# Altium footprint library Battery&Holders.PcbLib: 20 footprints (part 1 of 2)
Each footprint in its own frame and in the unit in brackets; x right, y up, seen from the top. Pads: shape width x height; smd on the part's side, far side on the other; paste and mask are expansions set on the pad; w line width, h text height; cw(c..) or ccw(c..) is an arc to the next point about the centre after c.
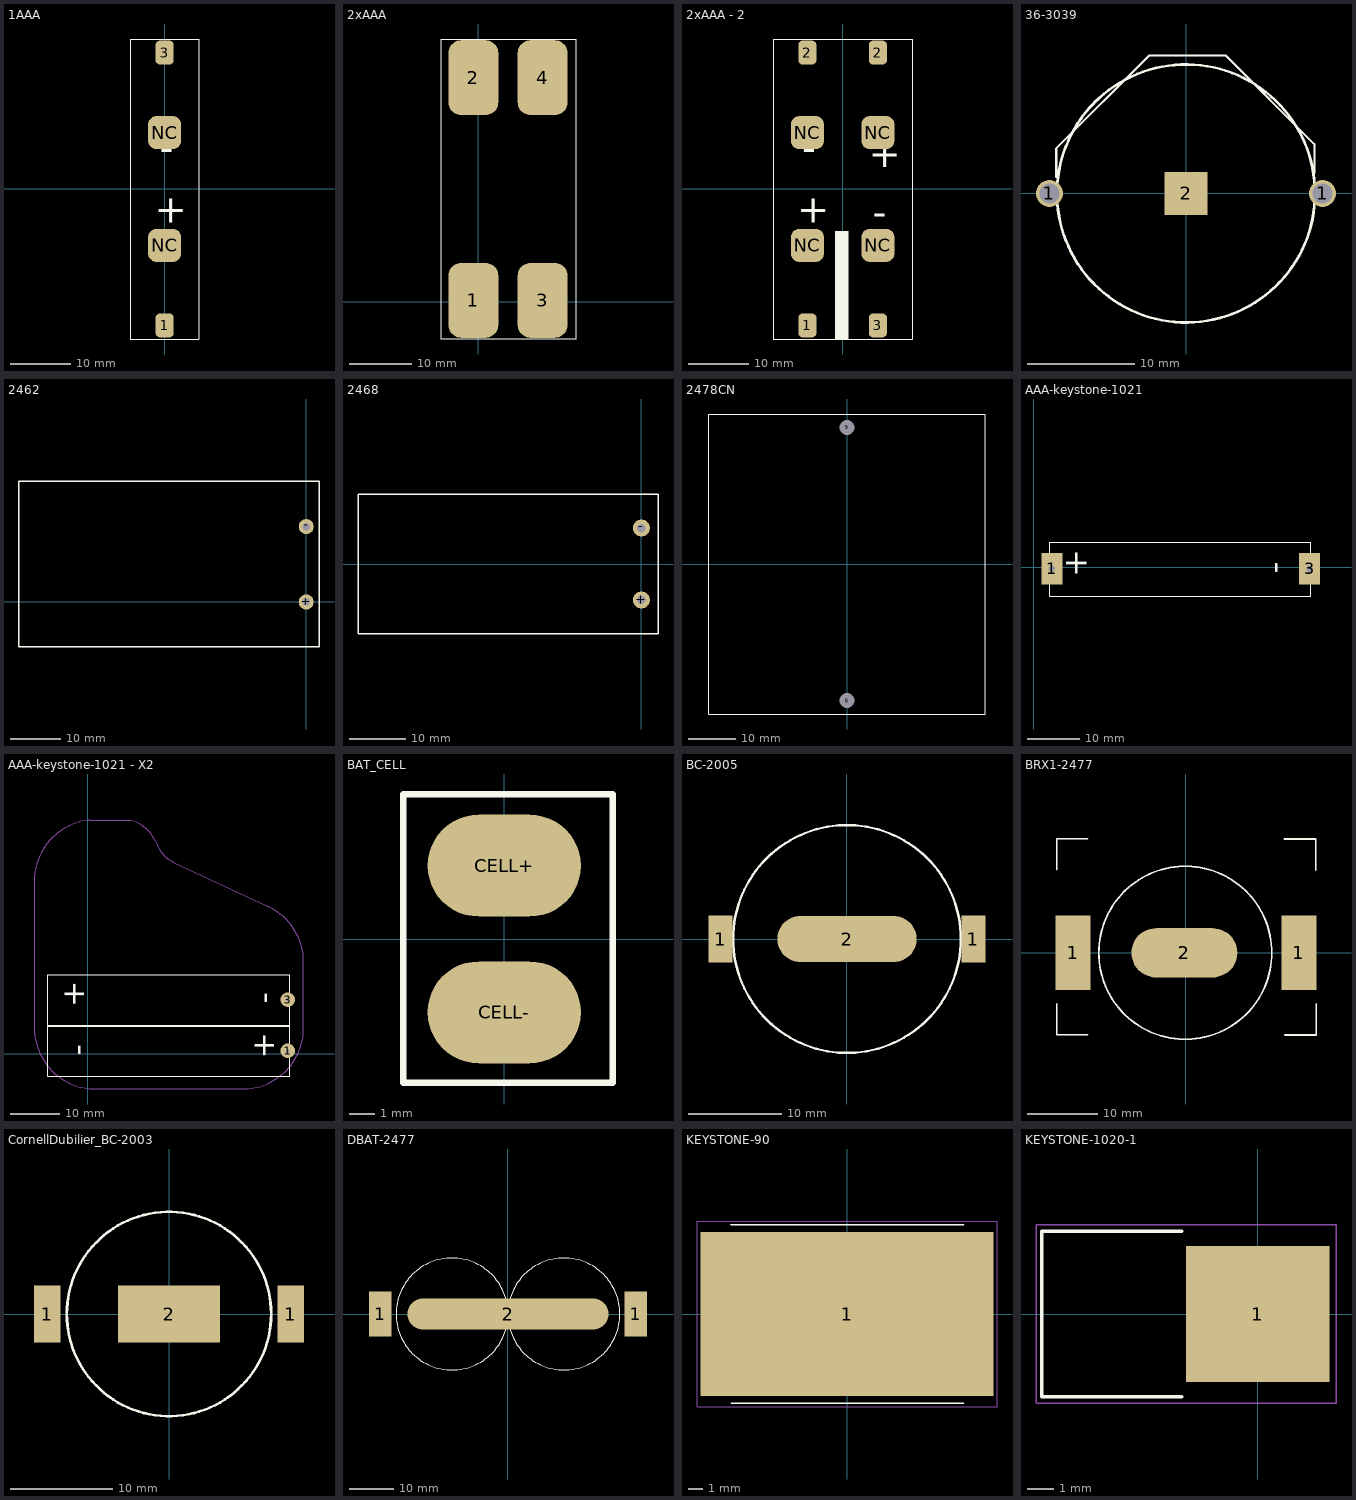
[diagram p0: the footprints below, top view; thin cyan lines are the x and y axes]

## 1AAA [mm]
pads (4):
  rrect50% 3x4 smd: 1(0,-22.65) 3(0,22.65)
  rrect50% 5.5x5.5 smd: NC(0,-9.35) NC(0,9.35)
Top Overlay:
  lines w0.15: -5.7,-24.9 -5.7,24.9 5.65,24.9 5.65,-24.9 -5.7,-24.9
  text "-" at -0.85,3.1 h8
  text "+" at -1.65,-7.2 h8
3D body "keystone-PN55.STEP": height 13.33, standoff 0.01, extent -5.673,7.492 5.67,24.15
3D body "keystone-PN55.STEP": height 13.33, standoff 0.01, extent -5.67,-24.15 5.673,-7.492
3D body "User Library-AAA Battery-2.step": height 12.12, standoff 1.88, extent -5.125,-22 5.125,22.35

## 2xAAA [mm]
pads (4):
  rrect50% 8x12 smd: 1(-0.8,0.2) 2(-0.8,35.9) 3(10.3,0.2) 4(10.3,35.9)
Top Overlay:
  lines w0.15: -6,-6 -6,42.1 15.7,42.1 15.7,-6 -6,-6
3D body "User Library-Keystone 82.step": height 12.71, standoff -3.94, extent -5.947,-4.562 4.537,5.328
3D body "User Library-AAA Battery-2.step": height 12.12, standoff 1.88, extent -5.825,-4.15 4.425,40.2
3D body "User Library-Keystone 82.step": height 12.71, standoff -3.94, extent -5.947,30.91 4.537,40.8
3D body "User Library-Keystone 82.step": height 12.71, standoff -3.94, extent 5.153,30.91 15.637,40.8
3D body "User Library-AAA Battery-2.step": height 12.12, standoff 1.88, extent 5.275,-4.15 15.525,40.2
3D body "User Library-Keystone 82.step": height 12.71, standoff -3.94, extent 5.153,-4.562 15.637,5.328

## 2xAAA - 2 [mm]
pads (8):
  rrect50% 3x4 smd: 1(-5.85,-22.65) 2(-5.85,22.65) 2(5.85,22.65) 3(5.85,-22.65)
  rrect50% 5.5x5.5 smd: NC(-5.85,-9.35) NC(-5.85,9.35) NC(5.85,-9.35) NC(5.85,9.35)
Top Overlay:
  rectangle: -1.3,-24.9 1,-7
  lines w0.15: -11.55,-24.9 11.55,-24.9 11.55,24.9 -11.55,24.9 -11.55,-24.9
  text "+" at -7.5,-7.2 h8
  text "-" at -6.7,3.1 h8
  text "-" at 5,-7.6 h8
  text "+" at 4.3,2 h8
3D body "User Library-AAA Battery-2.step": height 12.12, standoff 1.88, extent -10.975,-22 -0.725,22.35
3D body "keystone-PN55.STEP": height 13.33, standoff 0.01, extent -11.52,-24.15 -0.177,-7.492
3D body "keystone-PN55.STEP": height 13.33, standoff 0.01, extent -11.523,7.492 -0.18,24.15
3D body "keystone-PN55.STEP": height 13.33, standoff 0.01, extent 0.177,7.492 11.52,24.15
3D body "keystone-PN55.STEP": height 13.33, standoff 0.01, extent 0.18,-24.15 11.523,-7.492
3D body "User Library-AAA Battery-2.step": height 12.12, standoff 1.88, extent 0.725,-22 10.975,22.35

## 36-3039 [mm] "BATTERY HOLDER THRU HOLE 2477"
pads (3):
  round 2.5 hole 1.85: 1(-12.7,0) 1(12.7,0)
  rect 4x4 smd: 2(0,0)
Top Overlay:
  circle w0.254: c0,0 r12
  lines w0.2: -12.065,1.524 -12.065,4.191 -3.429,12.827 3.683,12.827 11.938,4.572 11.938,1.905
3D body "keystone-PN3039.STEP": height 8.55, standoff -2.88, extent -13.594,-9.779 13.594,12.827

## 2462 [mm] "2 AA Cell Holder, PC P/N 2462"
pads (2):
  round 3 hole 1.5: +(0,0) -(0,14.99)
Top Overlay:
  lines w0.254: -57.15,-8.89 -57.15,24.003 2.54,24.003 2.54,-8.89 -57.15,-8.89
3D body "keystone-PN2462.STEP": height 16.01, standoff -11.98, extent -57.174,-8.89 2.54,24.028

## 2468 [mm] "HOLDER BATTERY 2CELL AAA PC MNT"
pads (2):
  round 3 hole 1.5: +(0,-6.35) -(0,6.35)
Top Overlay:
  lines w0.254: -50.038,-12.319 -50.038,12.319 2.921,12.319 2.921,-12.319 -50.038,-12.319
3D body "keystone-PN2468.STEP": height 13.23, standoff -12.69, extent -50.063,-12.294 2.921,12.294

## 2478CN [mm] "BATT HLDR AA 4 CELL LEADS W/CONN"
pads (2):
  oval 1.6x2.2 hole 3.18 unplated: 8(0,-28.7) 9(0,28.7)
Top Overlay:
  lines w0.2: -29,-31.5 29,-31.5 29,31.5 -29,31.5 -29,-31.5
3D body "keystone-PN2478CN.STEP": height 16.01, standoff 0.01, extent -186.364,-31.317 29.104,31.673

## AAA-keystone-1021 [mm]
pads (4):
  round 0 hole 1.2: 1(3.4,-0.3) 3(52.325,-0.3)
  rect 4x6 smd: 1(3.4,-0.3) 3(52.325,-0.3)
Top Overlay:
  lines w0.15: 2.975,-5.5 52.525,-5.5 52.525,4.775 2.975,4.775 2.975,-5.5
  text "+" at 11.65,-1.875 h8
  text "-" at 49.35,-1.275 h8
3D body "keystone-PN1021-1.STEP": height 10.33, standoff -4.31, extent 3.019,-3.475 7.359,2.875
3D body "User Library-AAA Battery-2.step": height 10.63, standoff 0.37, extent 4.975,-5.45 49.325,4.8
3D body "keystone-PN1021-1.STEP": height 10.33, standoff -4.31, extent 48.16,-3.375 52.5,2.975

## AAA-keystone-1021 - X2 [mm]
pads (2):
  round 3 / inner round 3 / far side round 1.1 hole 0.8: 1(40.975,0.65) 3(40.975,11.125)
Top Overlay:
  lines w0.15: -8.15,-4.55 -8.15,5.725 41.4,5.725 41.4,-4.55 -8.15,-4.55 ; -8.15,5.925 41.4,5.925 41.4,16.2 -8.15,16.2 -8.15,5.925
  text "+" at 32.725,-0.925 h8
  text "-" at -4.975,-0.325 h8
  text "-" at 33.175,10.275 h8
  text "+" at -6.225,9.6 h8
Mechanical 2:
  lines w0.01: 8.42,47.887 8.626,47.887
  lines w0.013: -10.83,4.195 ccw(c1.63,5.347) 0.471,-7.113 32.868,-7.113 ; -10.83,36.587 cw(c1.629,35.428) 0.478,47.887 8.42,47.887 ; -10.825,4.195 -10.825,36.587 ; 8.626,47.888 cw(c6.694,40.125) 13.854,43.693 ccw(c21.438,46.24) 17.527,39.261 36.898,30.195 cw(c31.716,18.805) 44.175,19.965 44.175,19.515 ; 32.868,-7.11 ccw(c31.716,5.35) 44.175,4.19 44.175,19.515 ; 44.175,19.515 44.175,19.515
3D body "keystone-PN181.STEP": height 9, standoff 2.2, extent -6.925,-2.853 0.575,14.364
3D body "keystone-PN179.STEP": height 8.81, standoff -14.5, extent 39.875,-2.838 41.275,3.788
3D body "keystone-PN180.STEP": height 9, standoff -14.5, extent 33.927,7.696 41.425,14.596
3D body "User Library-AAA Battery-2.step": height 10.63, standoff 0.37, extent -5.225,-4.55 39.125,5.7
3D body "User Library-AAA Battery-2.step": height 10.63, standoff 0.37, extent -5.225,5.95 39.125,16.2

## BAT_CELL [mm]
pads (2):
  oval 6x4 smd: CELL+(0,2.875) CELL-(0,-2.875)
Top Overlay:
  lines w0.254: -3.95,-5.625 -3.95,5.675 4.25,5.675 4.25,-5.625 -3.95,-5.625

## BC-2005 [mm] "CR2450 BATTERY STRAP SMT"
pads (3):
  rect 2.6x5.08 smd: 1(-13.59,0) 1(13.59,0)
  oval 15x5 smd: 2(0,0)
Top Overlay:
  circle w0.254: c0,0 r12.25
3D body "bat_holder_ok.step": height 4.52, standoff 0, extent -12.635,-4.054 12.635,4.206
3D body: height 0.2, standoff 0, extent -13.894,-2.54 -12.522,2.515
3D body: height 0.2, standoff 0, extent 12.497,-2.515 13.868,2.54
3D body "User Library-CR 2450.step": height 4, standoff -0.75, extent -12.25,-12.25 12.25,12.25

## BRX1-2477 [mm] "CR2477 SURFACE MOUNT BATTERY RETAINER"
pads (3):
  rect 5x10.5 smd: 1(-16,0) 1(16,0)
  oval 15x7 smd: 2(-0.227,0)
Top Overlay:
  circle w0.254: c-0.1,0 r12.25
  lines w0.254: -18.313,-7.214 -18.313,-11.608 -13.919,-11.608 ; -18.313,11.76 -18.313,16.154 -13.919,16.154 ; 13.97,16.104 18.364,16.104 ; 14.021,-11.659 18.415,-11.659 ; 18.39,11.709 18.39,16.104 ; 18.44,-11.633 18.44,-7.239
3D body "BRX1-2477-SM.STEP": height 8.74, standoff 0, extent -18.286,-11.655 18.442,16.133

## CornellDubilier_BC-2003 [mm] "CR2032 BATTERY STRAP SMT"
pads (3):
  rect 2.6x5.56 smd: 1(-11.905,0) 1(11.905,0)
  rect 10x5.56 smd: 2(0,0)
Top Overlay:
  circle w0.254: c0,0 r10
3D body "CR-2032 v1.step": height 3.2, standoff 0, extent -10,-10 10,10
3D body "BC-2003-G--3DModel-STEP-1.STEP": height 3.56, standoff 0, extent -12.7,-4.765 12.7,4.765

## DBAT-2477 [mm] "DOBLE CR2477 PARALELO SURFACE MOUNT BATTERY RETAINER"
pads (3):
  rect 5x10 smd: 1(-28.5,0) 1(28.5,0)
  oval 45x7 smd: 2(0,0)
Top Overlay:
  circle w0.254: c-12.5,0 r12.5
  circle w0.254: c12.5,0 r12.5

## KEYSTONE-90 [mm] "BATT HOLDER CLIP AAA 1 CELL"
pads (1):
  rect 20x11.2 smd mask+0.05: 1(0,0)
Top Overlay:
  lines w0.127: -7.925,6.1 7.95,6.1 ; -7.9,-6.1 7.975,-6.1
Mechanical 15:
  lines w0.05: -10.25,-6.35 10.25,-6.35 10.25,6.35 -10.25,6.35 -10.25,-6.35
3D body "keystone-PN90.STEP": height 11.6, standoff -0.01, extent -7.875,-6.037 8,6.037

## KEYSTONE-1020-1 [mm] "BATT CONT SPRING MULT 1 CELL SMD"
pads (1):
  rect 5.5x5.2 smd mask+0.05: 1(0,0)
Top Overlay:
  lines w0.127: -2.9,-3.175 -8.275,-3.175 -8.275,3.175 -2.9,3.175
Mechanical 15:
  lines w0.05: -8.5,-3.425 3,-3.425 3,3.425 -8.5,3.425 -8.5,-3.425
3D body "keystone-PN1020-1.STEP": height 11.12, standoff 0.1, extent -8.262,-3.175 1.745,3.175